# EAGLE library part SIMM30 (library Custom)
AMP connector
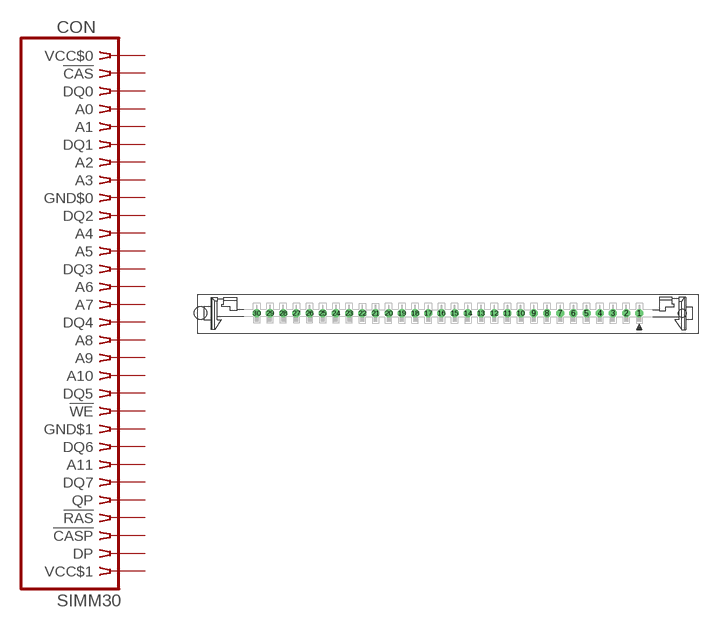
[diagram p16: symbol with the pads of SIMM30; footprint SIMM30]

Designator prefix CON

## SIMM30  [SIMM30]
1  VCC$0  pas
2  !CAS  pas
3  DQ0  pas
4  A0  pas
5  A1  pas
6  DQ1  pas
7  A2  pas
8  A3  pas
9  GND$0  pas
10  DQ2  pas
11  A4  pas
12  A5  pas
13  DQ3  pas
14  A6  pas
15  A7  pas
16  DQ4  pas
17  A8  pas
18  A9  pas
19  A10  pas
20  DQ5  pas
21  !WE  pas
22  GND$1  pas
23  DQ6  pas
24  A11  pas
25  DQ7  pas
26  QP  pas
27  !RAS  pas
28  !CASP  pas
29  DP  pas
30  VCC$1  pas

## Footprint SIMM30 (pad centres in mm)
SIMM connector
drill 1.016 octagon: 1 36.83,0; 2 34.29,0; 3 31.75,0; 4 29.21,0; 5 26.67,0; 6 24.13,0; 7 21.59,0; 8 19.05,0; 9 16.51,0; 10 13.97,0; 11 11.43,0; 12 8.89,0; 13 6.35,0; 14 3.81,0; 15 1.27,0; 16 -1.27,0; 17 -3.81,0; 18 -6.35,0; 19 -8.89,0; 20 -11.43,0; 21 -13.97,0; 22 -16.51,0; 23 -19.05,0; 24 -21.59,0; 25 -24.13,0; 26 -26.67,0; 27 -29.21,0; 28 -31.75,0; 29 -34.29,0; 30 -36.83,0
hole 2.413 at -47.65,0.025
hole 1.6 at 45.085,0